# EAGLE library part 8PINHEADER (library CharlieCreations)
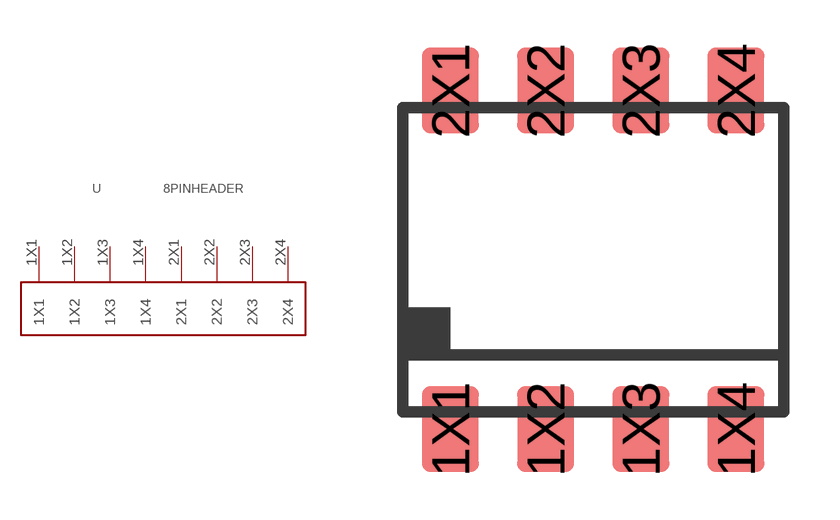
[diagram p14: symbol with the pads of HEADERSMDRIGHTANGLE4X2; footprint HEADERSMDRIGHTANGLE4X2]

Designator prefix -

## 8PINHEADER  [HEADERSMDRIGHTANGLE4X2]
1X1  1X1
1X2  1X2
1X3  1X3
1X4  1X4
2X1  2X1
2X2  2X2
2X3  2X3
2X4  2X4

## Footprint HEADERSMDRIGHTANGLE4X2 (pad centres in mm)
smd 1.524 x 2.286: 1X1 -3.81,-4.521; 1X2 -1.27,-4.521; 1X3 1.27,-4.521; 1X4 3.81,-4.521; 2X1 -3.81,4.521; 2X2 -1.27,4.521; 2X3 1.27,4.521; 2X4 3.81,4.521